# Altium footprint library TO254P1010X470X2933-3.PcbLib: 1 footprints
Each footprint in its own frame and in the unit in brackets; x right, y up, seen from the top. Pads: shape width x height; smd on the part's side, far side on the other; paste and mask are expansions set on the pad; w line width, h text height; cw(c..) or ccw(c..) is an arc to the next point about the centre after c.
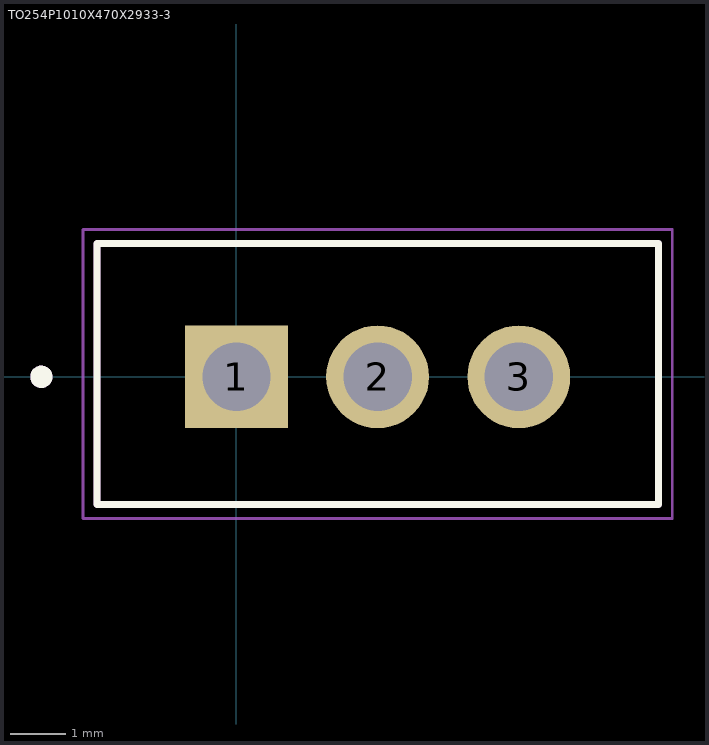
[diagram p0: the footprint, top view; thin cyan lines are the x and y axes]

## TO254P1010X470X2933-3 [mm]
pads (3):
  rect 1.85x1.85 / inner round 1.85 / far side rect 1.85x1.85 hole 1.23: 1(0,0)
  round 1.85 hole 1.23: 2(2.54,0) 3(5.08,0)
Top Overlay:
  circle w0.2: c-3.51,0 r0.1
  lines w0.127: -2.51,-2.3 -2.51,2.4 7.59,2.4 7.59,-2.3 -2.51,-2.3
Mechanical 13:
  circle w0.2: c-3.51,0 r0.1
  lines w0.127: -2.51,-2.3 -2.51,2.4 7.59,2.4 7.59,-2.3 -2.51,-2.3
Mechanical 15:
  lines w0.05: -2.76,-2.55 7.84,-2.55 7.84,2.65 -2.76,2.65 -2.76,-2.55